# EAGLE library part (TEMP)MOSFET_DRIVER (library DubSat1 Components)
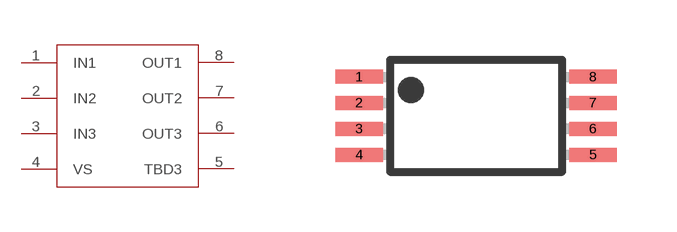
[diagram p24: symbol with the pads of TSSOP-8; footprint TSSOP-8]

Designator prefix -

## (TEMP)MOSFET_DRIVER  [TSSOP-8]
1  IN1
2  IN2
3  IN3
4  VS
5  TBD3
6  OUT3
7  OUT2
8  OUT1

## Footprint TSSOP-8 (pad centres in mm)
smd 1.2 x 0.35: 1 -4.175,1.725; 2 -4.175,1.075; 3 -4.175,0.425; 4 -4.175,-0.225; 5 1.675,-0.225; 6 1.675,0.425; 7 1.675,1.075; 8 1.675,1.725